# Altium footprint library LM1117DT-3.3.PcbLib: 1 footprints
Each footprint in its own frame and in the unit in brackets; x right, y up, seen from the top. Pads: shape width x height; smd on the part's side, far side on the other; paste and mask are expansions set on the pad; w line width, h text height; cw(c..) or ccw(c..) is an arc to the next point about the centre after c.
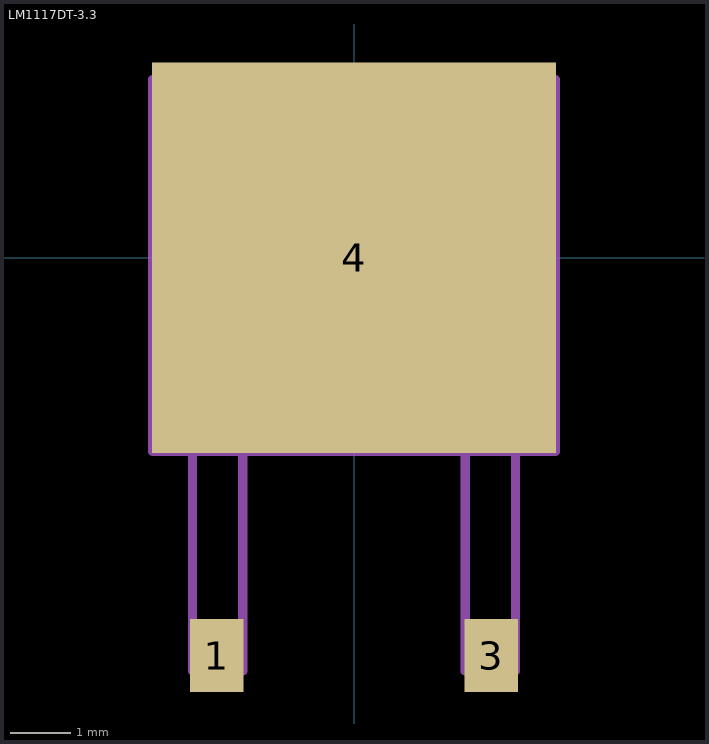
[diagram p0: the footprint, top view; thin cyan lines are the x and y axes]

## LM1117DT-3.3 [mil]
pads (3):
  rect 35x48 smd: 1(-90,-261) 3(90,-261)
  rect 265x256 smd: 4(0,0)
Mechanical 13:
  lines w6: -132,-127 132,-127 132,117 -132,117 -132,-127 ; -106,-271 -106,-127 -73,-127 -73,-271 -106,-271 ; 73,-271 73,-127 106,-127 106,-271 73,-271
3D body "LM1117DT-3.3_NOPB.STEP": height 106.39, standoff -0.69, extent -128.74,-280.08 128.74,110.08